# EAGLE library part 1981568-1 (library HEXABITZ_CONNECTION_PARTS)
CONN RCPT MICRO USB B R/A SMD
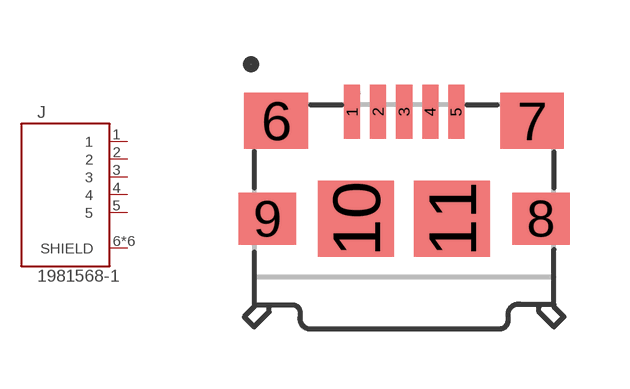
[diagram p6: symbol with the pads of TE_1981568-1; footprint TE_1981568-1]

Designator prefix J

## 1981568-1 (DESCRIPTION: USB - micro B USB 2.0 Receptacle Connector 5 Position Surface Mount, Right Angle; MFN: TE Connectivity; MPN: 19815681; OCTOPART_URL: https://www.te.com/usa-en/product-19815681.html?te_bu=Cor&te_type=disp&te_campaign=seda_glo_cor-seda-global-disp-prtnr-fy19-seda-model-bom-cta_sma-317_1&elqCampaignId=32493)  [TE_1981568-1]
1  1  pas
2  2  pas
3  3  pas
4  4  pas
5  5  pas
6  SHIELD  pas
7  SHIELD  pas
8  SHIELD  pas
9  SHIELD  pas
10  SHIELD  pas
11  SHIELD  pas

## Footprint TE_1981568-1 (pad centres in mm)
smd 0.4 x 1.35: 1 -1.3,2.675; 2 -0.65,2.675; 3 0,2.675; 4 0.65,2.675; 5 1.3,2.675
smd 1.6 x 1.4: 6 -3.2,2.45; 7 3.2,2.45
smd 1.45 x 1.3: 8 3.425,0; 9 -3.425,0
smd 1.9 x 1.9: 10 -1.2,0; 11 1.2,0